# Altium schematic symbol library 693043020611.SchLib: 1 symbol
Pins are listed as number, name and electrical type; pins without a type are passive.

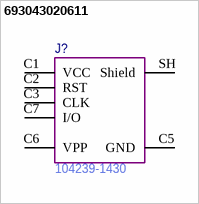
[diagram p0: symbol 693043020611]

## 693043020611
designator J?  Manufacturer Part Number: 104239-1430  (hidden comment: *)
pins: C1 VCC, C2 RST, C3 CLK, C5 GND (power), C6 VPP, C7 I/O, SH Shield (power)